# Altium integrated library Wire_to_Board.IntLib: 20 symbols
Pins are listed as number, name and electrical type; pins without a type are passive.

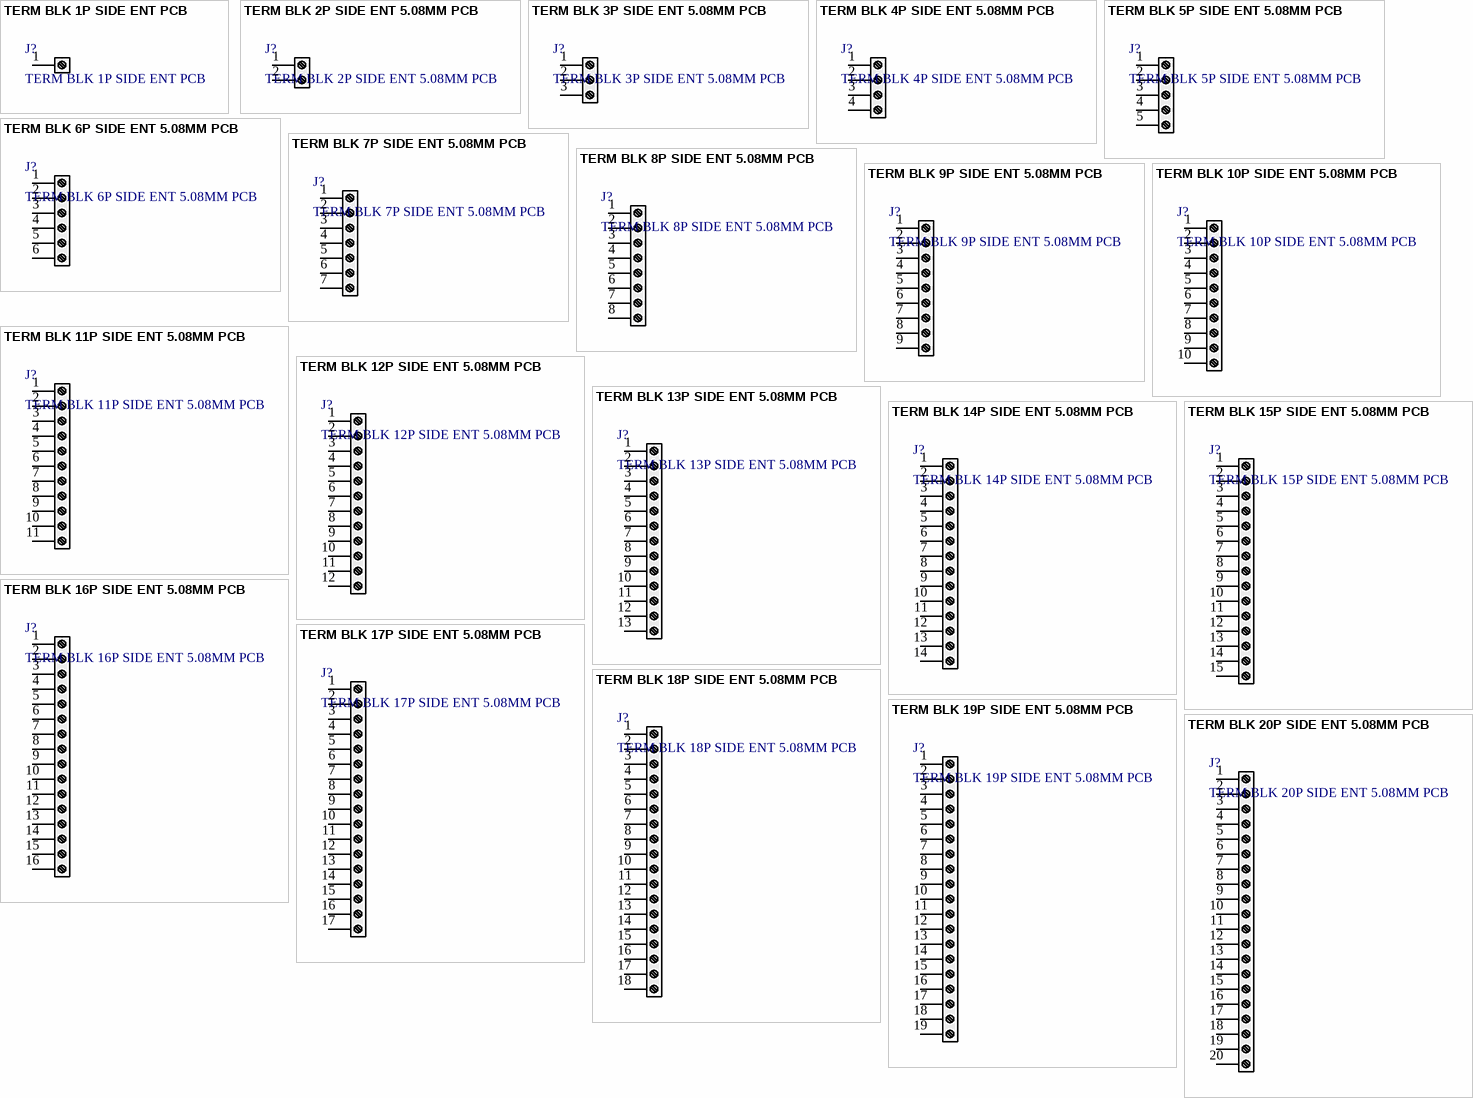
[diagram p0: symbols TERM BLK 1P SIDE ENT PCB to TERM BLK 20P SIDE ENT 5.08MM PCB]

## TERM BLK 1P SIDE ENT PCB
designator J?
pins: 1

## TERM BLK 2P SIDE ENT 5.08MM PCB
designator J?
Block, Terminal; 13.5 A; 250 V; 5.08 mm; 26 to 16 AWG; 2; Screw; Solder; 4 kV; Manufacturer: Phoenix Contact; Manufacturer Part Number: 1729128; Voltage Rating: 400V; Current Rating: 13.5A; Voltage: 300V; Number of Positions: 2; Number of Levels: 1; Current: 10A; Wire Gauge (Max): 26AWG; Wire Gauge (Min): 14AWG; Approvals: UL,CSA; Supplier: Digi-Key; Supplier Part Number: 277-1247-ND; RoHS: Yes; Category: Terminal Blocks; Stock: 5868; Pricing: 1=1.17, 10=1.162, 50=1.111, 100=1.0807, 250=1.01, 500=0.9292, 1000=0.8585, 2500=0.8181, 5000=0.7676 (USD); Mounting Technology: Through Hole; Pins: 2; Color: Green; Housing Color: Green; Housing Material: Polyamide; Contact Material: Tin; Weight: 0.069842oz; Insulation Material: Nylon; Packaging: Bulk; Termination: Solder; Series: MKDSN; Package Quantity: 50; Number of Contacts: 2; Orientation: Straight; Connector Type: Screw; Number of Poles: 2; Number of Rows: 1; Number of Positions Per Level: 2; Max Current Rating: 13.5A; Max Supply Voltage: 400V; Number of Circuits: 2; Length: 8.1mm; Width: 13.5mm; Height: 13.5mm; Depth: 8.1mm; Pitch: 5.08mm; Wire/Cable Gauge: 26AWG; Radiation Hardening: No; RoHS Compliant: Yes; Lead Free: Lead Free; Reach SVHC Compliant: No; Flammability Rating: UL94 V-0; ComponentLink1URL: https://datasheet.ciiva.com/16046/1729128-16046181.pdf?src-supplier=Onlinecomponents.com; ComponentLink1Description: https://datasheet.ciiva.com/16046/1729128-16046181.pdf?src-supplier=Onlinecomponents.com; ComponentLink2URL: https://datasheet.ciiva.com/15169/getdatasheetpartid-199310-15169845.pdf?src-supplier=Verical; ComponentLink2Description: https://datasheet.ciiva.com/15169/getdatasheetpartid-199310-15169845.pdf?src-supplier=Verical; ComponentLink3URL: https://datasheet.ciiva.com/823/1729128-823779.pdf?src-supplier=Digi-Key; ComponentLink3Description: https://datasheet.ciiva.com/823/1729128-823779.pdf?src-supplier=Digi-Key; ComponentLink4URL: https://datasheet.ciiva.com/14607/70054405-14607157.pdf?src-supplier=Allied+Electronics; ComponentLink4Description: https://datasheet.ciiva.com/14607/70054405-14607157.pdf?src-supplier=Allied+Electronics; ComponentLink5URL: https://datasheet.ciiva.com/29218/743664-da-01-en-printklemmenblock-mkdsn-1-5-2-5-08-29218154.pdf?src-supplier=Conrad; ComponentLink5Description: https://datasheet.ciiva.com/29218/743664-da-01-en-printklemmenblock-mkdsn-1-5-2-5-08-29218154.pdf?src-supplier=Conrad
footprint TERM BLK 2P SIDE ENT 5.08MM PCB
pins: 1, 2

## TERM BLK 3P SIDE ENT 5.08MM PCB
designator J?
Serie 2365 - 5.08 mm Horizontal Cable Entry Modular with Rising Cage Clamp WR-TBL, 3 pin; Manufacturer: Wurth Electronics; Manufacturer Part Number: 691236510003; Plating: Copper Alloy,ZINC PLATED; Number of Levels: 1; Number of Positions Per Level: 3; Current: 20A; Voltage: 300V; Wire Gauge (Max): 30AWG; Wire Gauge (Min): 12AWG; Supplier: Digi-Key; Supplier Part Number: 732-10996-ND; RoHS: Yes; Category: Terminal Blocks; Stock: 54; Pricing: 1=3.76, 10=3.294, 50=2.975, 100=2.666, 500=2.505 (USD); Mounting Technology: Through Hole; Color: Green; Housing Material: Nylon; Min Operating Temperature: -30°C; Max Operating Temperature: 120°C; Termination: Screw; Series: WR-TBL Series 2365; RoHS Compliant: Yes; ComponentLink1URL: https://katalog.we-online.de/em/datasheet/691236510003.pdf?src-supplier=Digi-Key; ComponentLink1Description: https://katalog.we-online.de/em/datasheet/691236510003.pdf?src-supplier=Digi-Key
footprint TERM BLK 3P SIDE ENT 5.08MM PCB
pins: 1, 2, 3

## TERM BLK 4P SIDE ENT 5.08MM PCB
designator J?
pins: 1, 2, 3, 4

## TERM BLK 5P SIDE ENT 5.08MM PCB
designator J?
pins: 1, 2, 3, 4, 5

## TERM BLK 6P SIDE ENT 5.08MM PCB
designator J?
pins: 1, 2, 3, 4, 5, 6

## TERM BLK 7P SIDE ENT 5.08MM PCB
designator J?
pins: 1, 2, 3, 4, 5, 6, 7

## TERM BLK 8P SIDE ENT 5.08MM PCB
designator J?
pins: 1, 2, 3, 4, 5, 6, 7, 8

## TERM BLK 9P SIDE ENT 5.08MM PCB
designator J?
pins: 1, 2, 3, 4, 5, 6, 7, 8, 9

## TERM BLK 10P SIDE ENT 5.08MM PCB
designator J?
pins: 1, 2, 3, 4, 5, 6, 7, 8, 9, 10

## TERM BLK 11P SIDE ENT 5.08MM PCB
designator J?
pins: 1, 2, 3, 4, 5, 6, 7, 8, 9, 10, 11

## TERM BLK 12P SIDE ENT 5.08MM PCB
designator J?
pins: 1, 2, 3, 4, 5, 6, 7, 8, 9, 10, 11, 12

## TERM BLK 13P SIDE ENT 5.08MM PCB
designator J?
pins: 1, 2, 3, 4, 5, 6, 7, 8, 9, 10, 11, 12, 13

## TERM BLK 14P SIDE ENT 5.08MM PCB
designator J?
pins: 1, 2, 3, 4, 5, 6, 7, 8, 9, 10, 11, 12, 13, 14

## TERM BLK 15P SIDE ENT 5.08MM PCB
designator J?
pins: 1, 2, 3, 4, 5, 6, 7, 8, 9, 10, 11, 12, 13, 14, 15

## TERM BLK 16P SIDE ENT 5.08MM PCB
designator J?
pins: 1, 2, 3, 4, 5, 6, 7, 8, 9, 10, 11, 12, 13, 14, 15, 16

## TERM BLK 17P SIDE ENT 5.08MM PCB
designator J?
pins: 1, 2, 3, 4, 5, 6, 7, 8, 9, 10, 11, 12, 13, 14, 15, 16, 17

## TERM BLK 18P SIDE ENT 5.08MM PCB
designator J?
pins: 1, 2, 3, 4, 5, 6, 7, 8, 9, 10, 11, 12, 13, 14, 15, 16, 17, 18

## TERM BLK 19P SIDE ENT 5.08MM PCB
designator J?
pins: 1, 2, 3, 4, 5, 6, 7, 8, 9, 10, 11, 12, 13, 14, 15, 16, 17, 18, 19

## TERM BLK 20P SIDE ENT 5.08MM PCB
designator J?
pins: 1, 2, 3, 4, 5, 6, 7, 8, 9, 10, 11, 12, 13, 14, 15, 16, 17, 18, 19, 20